# Altium integrated library MT41K256M16HA-125_E.IntLib: 1 symbol
Pins are listed as number, name and electrical type; pins without a type are passive.

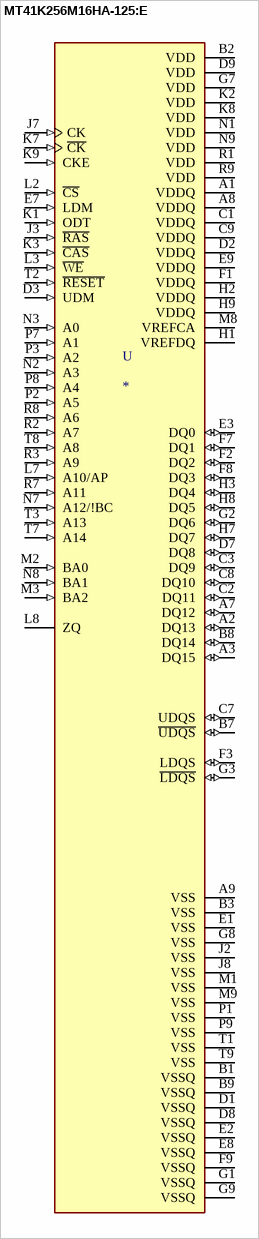
[diagram p0: symbol MT41K256M16HA-125:E]

## MT41K256M16HA-125:E
designator U
SDRAM - DDR3L Memory IC 4Gb _256M x 16_ Parallel 800MHz 13.75ns 96-FBGA _9x14_; MP: MT41K256M16HA-125:E; MF: Micron Technology; Digi-Key_Part_Number: MT41K256M16HA-125:E-ND; Value: *; SnapEDA_Link: https://www.snapeda.com/parts/MT41K256M16HA-125%3AE/Micron%20Technology%20Inc./view-part/78724/?ref=snap; Digi-Key_Purchase_URL: https://www.digikey.vn/product-detail/en/micron-technology-inc/MT41K256M16HA-125:E/MT41K256M16HA-125:E-ND/4251401?utm_source=snapeda&utm_medium=aggregator&utm_campaign=symbol; Package: FBGA-96 Micron
footprint BGA96C80P6X16_900X1400X120N
pins: A1 VDDQ (power), A2 DQ13 (io), A3 DQ15 (io), A7 DQ12 (io), A8 VDDQ (power), A9 VSS (power), B1 VSSQ (power), B2 VDD (power), B3 VSS (power), B7 ~{UDQS} (io), B8 DQ14 (io), B9 VSSQ (power), C1 VDDQ (power), C2 DQ11 (io), C3 DQ9 (io), C7 UDQS (io), C8 DQ10 (io), C9 VDDQ (power), D1 VSSQ (power), D2 VDDQ (power), D3 UDM (in), D7 DQ8 (io), D8 VSSQ (power), D9 VDD (power), E1 VSS (power), E2 VSSQ (power), E3 DQ0 (io), E7 LDM (in), E8 VSSQ (power), E9 VDDQ (power), F1 VDDQ (power), F2 DQ2 (io), F3 LDQS (io), F7 DQ1 (io), F8 DQ3 (io), F9 VSSQ (power), G1 VSSQ (power), G2 DQ6 (io), G3 ~{LDQS} (io), G7 VDD (power), G8 VSS (power), G9 VSSQ (power), H1 VREFDQ (power), H2 VDDQ (power), H3 DQ4 (io), H7 DQ7 (io), H8 DQ5 (io), H9 VDDQ (power), J2 VSS (power), J3 ~{RAS} (in), J7 CK (in), J8 VSS (power), K1 ODT (in), K2 VDD (power), K3 ~{CAS} (in), K7 ~{CK} (in), K8 VDD (power), K9 CKE (in), L2 ~{CS} (in), L3 ~{WE} (in), L7 A10/AP (in), L8 ZQ, M1 VSS (power), M2 BA0 (in), M3 BA2 (in), M8 VREFCA (power), M9 VSS (power), N1 VDD (power), N2 A3 (in), N3 A0 (in), N7 A12/!BC (in), N8 BA1 (in), N9 VDD (power), P1 VSS (power), P2 A5 (in), P3 A2 (in), P7 A1 (in), P8 A4 (in), P9 VSS (power), R1 VDD (power), R2 A7 (in), R3 A9 (in), R7 A11 (in), R8 A6 (in), R9 VDD (power), T1 VSS (power), T2 ~{RESET} (in), T3 A13 (in), T7 A14 (in), T8 A8 (in), T9 VSS (power)